# Altium schematic symbol library MCU_Microchip_PIC12.SchLib: 114 symbols (part 2 of 2)
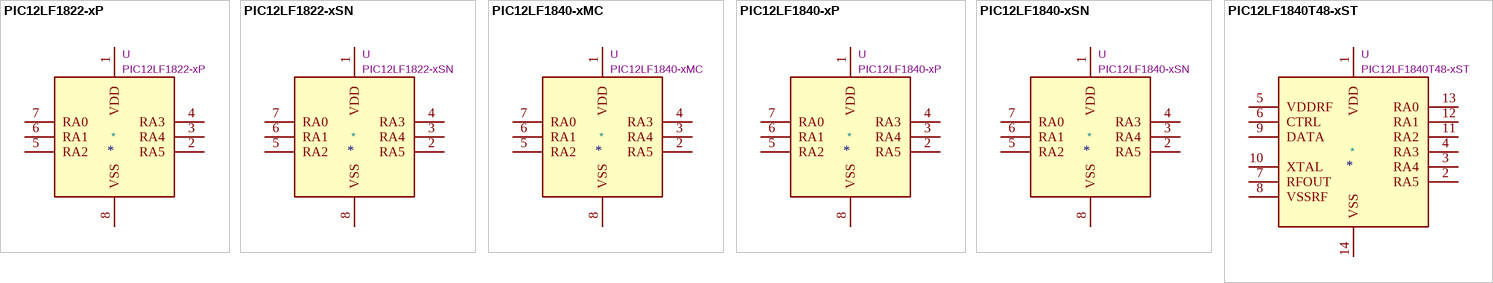
[diagram p4: symbols PIC12LF1822-xP to PIC12LF1840T48-xST]

## PIC12LF1840T48-xST
designator *  value PIC12LF1840T48-xST  Reference: U
PIC12LF1840T48, 4kW FLASH, 256B SRAM, 256B EEPROM, RF, TSSOP-14; ki_keywords: FLASH-Based 8-Bit CMOS Microcontroller XLP RF Transmitter; ki_fp_filters: TSSOP*4.4x5mm*P0.65mm*; Footprint: Package_SO:TSSOP-14_4.4x5mm_P0.65mm; Datasheet: https://ww1.microchip.com/downloads/en/DeviceDoc/40001594C.pdf; Description_: PIC12LF1840T48, 4kW FLASH, 256B SRAM, 256B EEPROM, RF, TSSOP-14
pins: 1 VDD, 2 RA5, 3 RA4, 4 RA3, 5 VDDRF, 6 CTRL, 7 RFOUT, 8 VSSRF, 9 DATA, 10 XTAL, 11 RA2, 12 RA1, 13 RA0, 14 VSS